# Altium footprint library PcbLib1.PcbLib: 7 footprints
Each footprint in its own frame and in the unit in brackets; x right, y up, seen from the top. Pads: shape width x height; smd on the part's side, far side on the other; paste and mask are expansions set on the pad; w line width, h text height; cw(c..) or ccw(c..) is an arc to the next point about the centre after c.
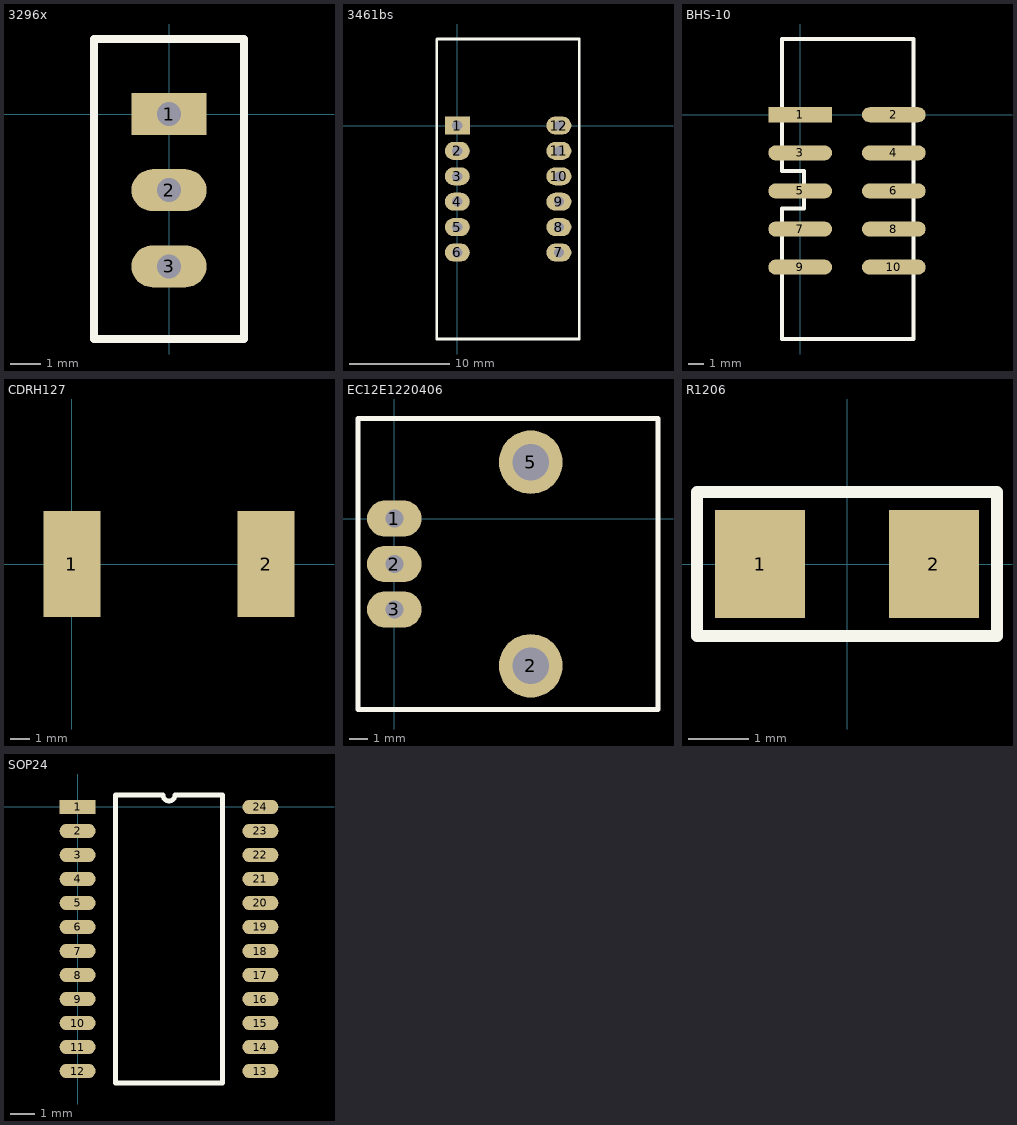
[diagram p0: the footprints below, top view; thin cyan lines are the x and y axes]

## 3296x [mm]
pads (3):
  rect 2.5x1.4 hole 0.8: 1(0,0)
  oval 2.5x1.4 hole 0.8: 2(0,-2.54) 3(0,-5.08)
Top Overlay:
  lines w0.254: -2.5,-7.5 -2.5,2.5 2.5,2.5 2.5,-7.5 -2.5,-7.5
3D body: height 12, standoff 0, extent -2.5,-7.5 2.5,2.5

## 3461bs [mm]
pads (12):
  rect 2.5x1.8 hole 1: 1(0,0)
  oval 2.5x1.8 hole 1: 2(0,-2.54) 3(0,-5.08) 4(0,-7.62) 5(0,-10.16) 6(0,-12.7) 7(10.16,-12.7) 8(10.16,-10.16) 9(10.16,-7.62) 10(10.16,-5.08) 11(10.16,-2.54) 12(10.16,0)
Top Overlay:
  lines w0.254: -2.05,8.6 -2.05,5.65 -2.05,-21.35 12.2,-21.35 12.2,8.65 -2,8.65
3D body: height 7.2, standoff 0, extent -1.9,-21.45 12.1,8.55

## BHS-10 [mm]
pads (10):
  rect 4.25x1 smd: 1(0,0)
  oval 4.25x1 smd: 2(6.25,0) 3(0,-2.54) 4(6.25,-2.54) 5(0,-5.08) 6(6.25,-5.08) 7(0,-7.62) 8(6.25,-7.62) 9(0,-10.16) 10(6.25,-10.16)
Top Overlay:
  lines w0.254: -1.2,4.95 -1.2,-3.75 0.25,-3.75 0.25,-6.25 -1.2,-6.25 -1.2,-14.95 7.55,-14.95 7.55,5.05 -1.2,5.05
3D body: height 8.6, standoff 0.1, extent -1.2,-14.95 7.55,5.05

## CDRH127 [mm]
pads (2):
  rect 2.9x5.4 smd: 1(0,0) 2(9.9,0)
3D body: height 8.5, standoff 0.5, extent -1,-6 11,5.999

## EC12E1220406 [mm]
pads (5):
  oval 3x2 hole 1: 1(0,0) 2(0,-2.5) 3(0,-5)
  round 3.5 hole 2: 2(7.5,-8.1) 5(7.5,3.1)
Top Overlay:
  lines w0.254: -2,-10.5 -2,5.5 14.5,5.5 14.5,-10.5 -2,-10.5
3D body: height 20.2, standoff -3.3, extent -0.149,-9.496 14.1,4.496

## R1206 [mm]
pads (2):
  rect 1.5x1.8 smd: 1(-1.45,0) 2(1.45,0)
Top Overlay:
  lines w0.2: -2.5,-1.2 2.5,-1.2 2.5,1.2 -2.5,1.2 -2.5,0 -2.5,-1.2
3D body: height 0.6, standoff 0, extent -1.6,-0.85 -0.85,0.85
3D body: height 0.6, standoff 0, extent 0.85,-0.85 1.6,0.85
3D body: height 0.6, standoff 0, extent -0.85,-0.85 0.85,0.85

## SOP24 [mm]
pads (24):
  rect 1.5x0.6 smd: 1(0,0)
  oval 1.5x0.6 smd: 2(0,-1) 3(0,-2) 4(0,-3) 5(0,-4) 6(0,-5) 7(0,-6) 8(0,-7) 9(0,-8) 10(0,-9) 11(0,-10) 12(0,-11) 13(7.62,-11) 14(7.62,-10) 15(7.62,-9) 16(7.62,-8) 17(7.62,-7) 18(7.62,-6) 19(7.62,-5) 20(7.62,-4) 21(7.62,-3) 22(7.62,-2) 23(7.62,-1) 24(7.62,0)
Top Overlay:
  lines w0.2: 1.585,-11.5 6.035,-11.5 6.035,0.5 4.06,0.5 cw(c3.81,0.5) 3.56,0.5 1.585,0.5 1.585,-11.5
3D body: height 1.9, standoff 0.1, extent 0.75,-12 6.85,1